# Altium integrated library Drone Flight Controller.IntLib: 33 symbols
Pins are listed as number, name and electrical type; pins without a type are passive.

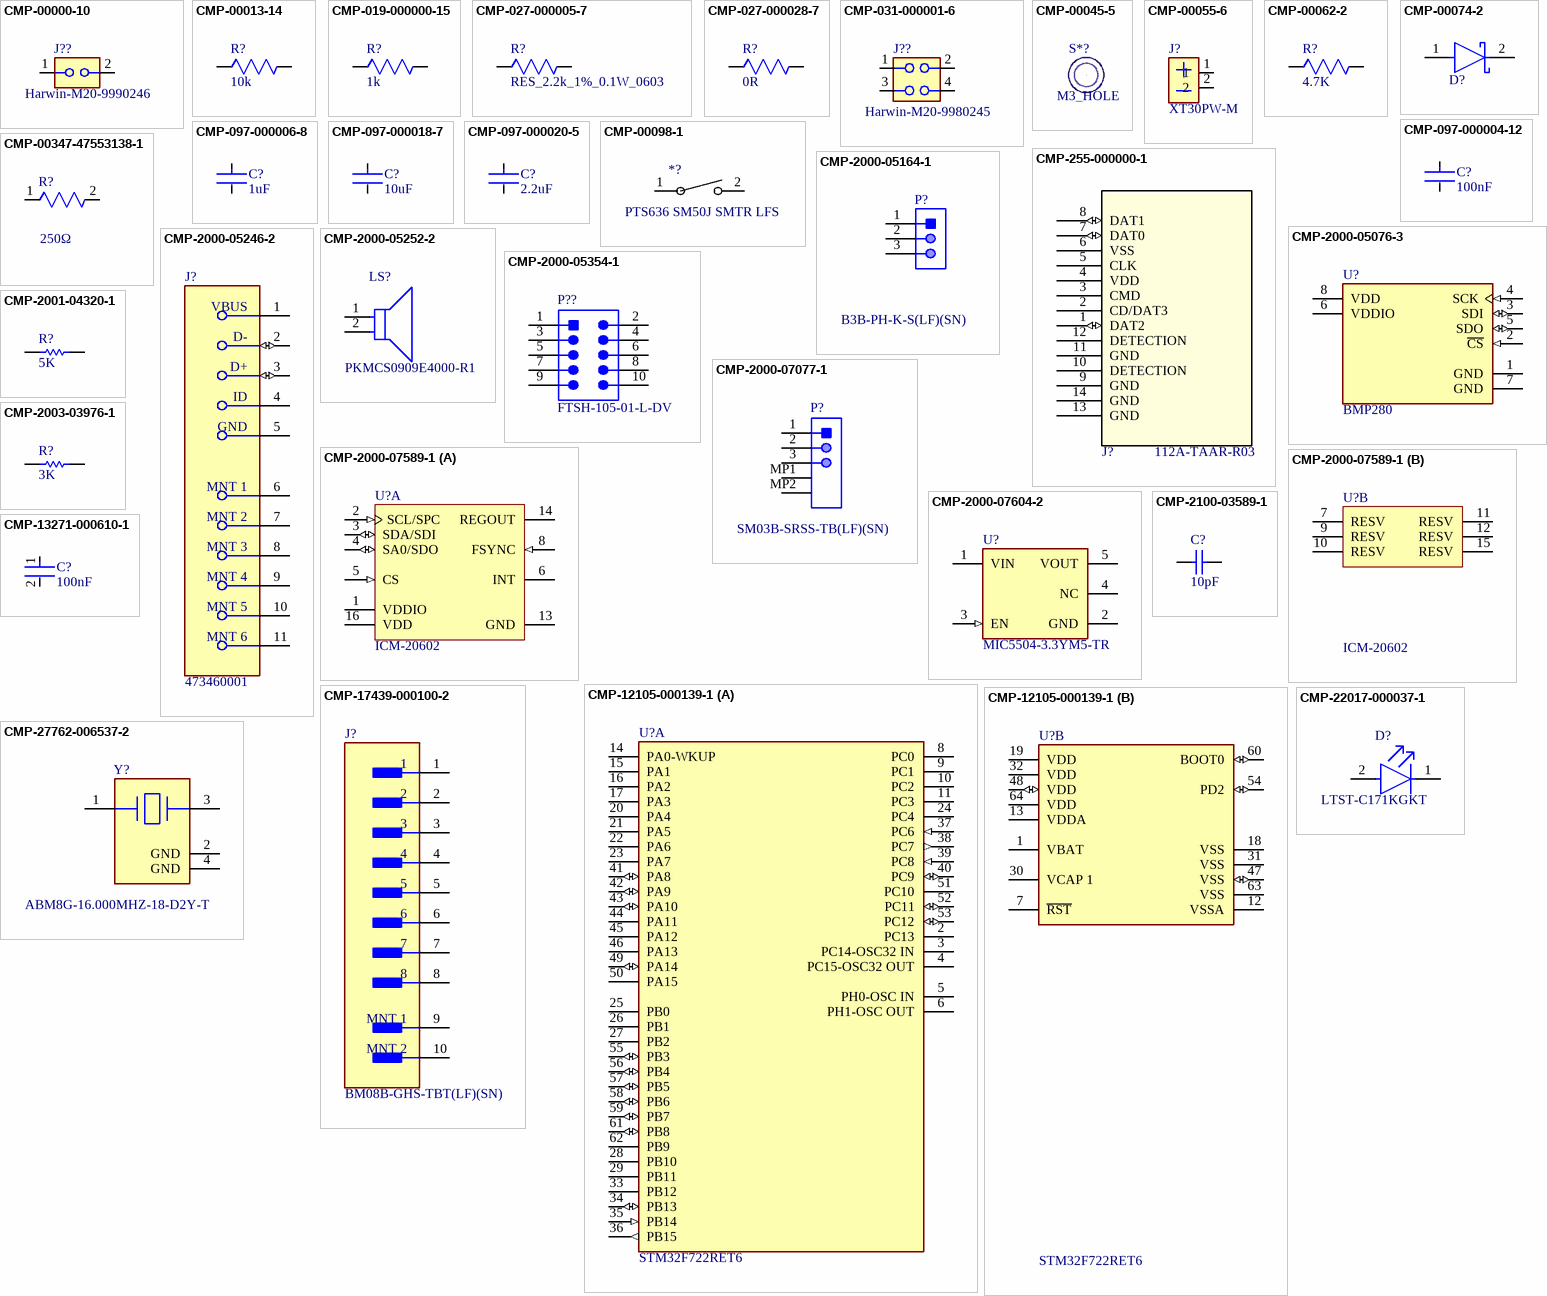
[diagram p0: symbols CMP-00000-10 to CMP-27762-006537-2]

## CMP-00000-10
designator J??, comment Harwin-M20-9990246
Connector Header Through Hole 2 position 0.100" (2.54mm); Manufacturer: Harwin; Number of Positions: 2; Contact Resistance: 30mR; Voltage Rating (AC): 750V; Max Current Rating: 3A; Insulation Resistance: 10GR; Gender: Male; Case/Package: SIL; Termination: Solder; Mount: Through Hole; Housing Material: Nylon; Max Operating Temperature: 105°C; JLCPCB Part No.: C3332353; Orientation: Straight; Contact Material: Bronze,Brass; Depth: 2.54mm; Current Rating: 3A; Radiation Hardening: No; Pitch: 2.54mm; Reach SVHC Compliant: No; Length: 5.08mm; Number of Rows: 1; Series: M20; Packaging: Bulk; Contact Plating: Tin; Contact Type: Male Pin; Color: Black; Contact Mating Length: 0.24inch; Package Quantity: 1000; Housing Color: Black; Min Operating Temperature: -40°C; Number of Contacts: 2; Manufacturer Part Number: M20-9990246; Component Type: Connectors
footprint HARWIN_M20-9990246
pins: 1, 2

## CMP-00013-14
designator R?, comment 10k
10 kOhms ±1% 0.1W, 1/10W Chip Resistor 0603 (1608 Metric) Moisture Resistant Thick Film; Manufacturer: Yageo Group; Manufacturer Part Number: RC0603FR-0710KL; Package Height: 0.45mm; Rated Temperature: 70°C; Temperature Coefficient: 100ppm/°C; Value: 10kR; Additional Feature: LASER TRIMMABLE; Power: 100mW; Working Voltage: 75V; Package Width: 0.8mm; Package Length: 1.6mm; Technology: METAL GLAZE/THICK FILM; Package Style: SMTMeter; Mounting Technology: Surface Mount; Reach SVHC Compliant: Yes; Package Shape: Rectangular; Min Operating Temperature: -55°C; Construction: Chip; JESD-609 Code: e3; Packaging: Tape and Reel; Tolerance: 1%; Max Operating Temperature: 155°C; Case/Package: 0603; Termination: Wraparound; Resistor Type: FIXED RESISTOR; Terminal Finish: Nickel; Pins: 2; JLCPCB Part No.: C98220; RoHS Compliant: Yes; Component Type: Resistors
footprint RES_0603 (Chip Resistor, 2-Leads, Body 1.60x0.80mm, IPC Medium Density)
pins: 1, 2

## CMP-019-000000-15
designator R?, comment 1k
1 kOhms ±1% 0.1W, 1/10W Chip Resistor 0603 (1608 Metric) Moisture Resistant Thick Film; Manufacturer: Yageo Group; Manufacturer Part Number: RC0603FR-071KL; Rated Temperature: 70°C; Working Voltage: 75V; Package Height: 0.45mm; MP: RC0805FR-071KL; Package Length: 1.6mm; Additional Feature: LASER TRIMMABLE; Temperature Coefficient: 100ppm/°C; Power: 100mW; MF: Yageo; Value: 1kR; Package Width: 0.8mm; Availability: In Stock; Package Style: SMTMeter; Termination: Wraparound; Min Operating Temperature: -55°C; SnapEDA_Link: https://www.snapeda.com/parts/RC0805FR-071KL/Yageo/view-part/?ref=snap; Mounting Technology: Surface Mount; Package: 2012 Rohm Semiconductor; JESD-609 Code: e3; Resistor Type: FIXED RESISTOR; Tolerance: 1%; RoHS Compliant: Yes; Case/Package: 0603; Package Shape: Rectangular; Component Type: Standard; Check_prices: https://www.snapeda.com/parts/RC0805FR-071KL/Yageo/view-part/?ref=eda; Pins: 2; Source: RC0805FR-071KL.SchLib; JLCPCB Part No.: C22548; Max Operating Temperature: 155°C; Pin Count: 2; Construction: Chip; Purchase-URL: https://pricing.snapeda.com/search/part/RC0805FR-071KL/?ref=eda; Terminal Finish: Nickel; Technology: METAL GLAZE/THICK FILM; Price: None; Reach SVHC Compliant: Yes; Design Item ID: RC0805FR-071KL; Packaging: Tape and Reel; Component Type: Resistors
footprint RES_0603 (Chip Resistor, 2-Leads, Body 1.60x0.80mm, IPC Medium Density)
pins: 1, 2

## CMP-027-000005-7
designator R?, comment RES_2.2k_1%_0.1W_0603
2.2 kOhms ±1% 0.1W, 1/10W Chip Resistor 0603 (1608 Metric) Moisture Resistant Thick Film; Manufacturer: Yageo Group; Manufacturer Part Number: RC0603FR-072K2L; Value: 2.2kR; JLCPCB Part No.: C114662; Component Type: Resistors
footprint RES_0603 (Chip Resistor, 2-Leads, Body 1.60x0.80mm, IPC Medium Density)
pins: 1, 2

## CMP-027-000028-7
designator R?, comment 0R
0 Ohms Jumper Chip Resistor 0603 (1608 Metric) Moisture Resistant Thick Film; Manufacturer: Yageo Group; Manufacturer Part Number: RC0603JR-070RL; Package Length: 1.6mm; Package Height: 0.45mm; Power: 100mW; Package Width: 0.8mm; Rated Temperature: 70°C; JLCPCB Part No.: C95177; RoHS Compliant: Yes; Packaging: Tape and Reel; Technology: METAL GLAZE/THICK FILM; Max Operating Temperature: 155°C; Pins: 2; Reach SVHC Compliant: Yes; Value: 0R; Package Shape: Rectangular; Min Operating Temperature: -55°C; Terminal Finish: Nickel; Termination: Wraparound; Resistor Type: FIXED RESISTOR; Mounting Technology: Surface Mount; Construction: Chip; Case/Package: 0603; JESD-609 Code: e3; Component Type: Resistors
footprint RES_0603 (Chip Resistor, 2-Leads, Body 1.60x0.80mm, IPC Medium Density)
pins: 1, 2

## CMP-031-000001-6
designator J??, comment Harwin-M20-9980245
Connector Header Through Hole 4 position 0.100" (2.54mm); Manufacturer: Harwin; MIL Conformance: No; Connector Type: BOARD CONNECTOR; Option: General Purpose; Number of Contacts: 4; Number of Rows Loaded: 1; Source: M20-9980245.SchLib; JLCPCB Part No.: C6585845; DIN Conformance: No; IEC Conformance: No; Mounting Technology: Board; JESD-609 Code: e4; Contact Finish - Termination: Gold (Au); Component Type: Standard; Pin Count: 4; Price: None; Mounting Style: STRAIGHT; Contact Material: Brass; Termination: Solder; Contact Finish - Mating: GOLD; Contact Gender: Male; Design Item ID: M20-9980245; Availability: Unavailable; Filter Feature: No; Terminal Pitch: 2.54mm; Value: *; Flammability Rating: UL94 V-0; MP: M20-9980245; Package: None; RoHS Compliant: Yes; Reach SVHC Compliant: Yes; Mixed Contacts: No; Manufacturer Part Number: M20-9980245; Component Type: Connectors
footprint HARWIN_M20-9980245
pins: 1, 2, 3, 4

## CMP-00045-5
designator S*?, comment M3_HOLE
Standard sized M3 screw mounting hole; Component Type: Miscellaneous
footprint M3 Screw Hole Footprint
pins: 0

## CMP-00055-6
designator J?, comment XT30PW-M
Power Connector; MF: amass; MP: XT30UPB-M; Source: XT30UPB-M.SchLib; Value: *; Design Item ID: XT30UPB-M; Pin Count: 2; JLCPCB Part No.: C428721; Availability: Not in stock; Check_prices: https://www.snapeda.com/parts/XT30UPB-M/AMASS/view-part/?ref=eda; SnapEDA_Link: https://www.snapeda.com/parts/XT30UPB-M/AMASS/view-part/?ref=snap; Package: None; Price: None; Component Type: Standard; Manufacturer: Amass; Manufacturer Part Number: XT30PW-M; Component Type: Connectors
footprint AMASS_XT30PW-M
pins: 1, 2

## CMP-00062-2
designator R?, comment 4.7K
Res Thick Film 1.6 x 0.8 mm 4.7K Ohm 1% 0.1W(1/10W) 100ppm/ C Molded SMD Paper T/R; Manufacturer: Yageo Group; Manufacturer Part Number: RC0603FR-074K7L; JLCPCB Part No.: C99782; Component Type: Resistors
footprint RES_0603 (Chip Resistor, 2-Leads, Body 1.60x0.80mm, IPC Medium Density)
pins: 1, 2

## CMP-00074-2
designator D?, comment SCHOTTKY_40Vrm_1A_500mV  (value not drawn)
SS14 Series 500 mV 1 A 40 V Max Reverse Voltage Schottky Rectifier - DO-214AC; Manufacturer: onsemi; JLCPCB Part No.: C2480; Manufacturer Part Number: SS14; Component Type: Diodes
footprint FP-403AE-MFG
pins: 1 A, 2 C

## CMP-097-000004-12
designator C?, comment 100nF
CAP CER 0.1UF 50V X7R 0603; Manufacturer: Yageo Group; Manufacturer Part Number: CC0603KRX7R9BB104; Tolerance (fill in as +-): 10%; Capacitor Type: Ceramic; Multilayer: Yes; Width: 0.8mm; Pins: 2; Case/Package: 0603; Max Operating Temperature: 125°C; Value: 100nF; Package Style: SMTMeter; Terminal Finish: Nickel; RoHS Compliant: Yes; Height: 0.8mm; Reach SVHC Compliant: Yes; JLCPCB Part No.: C14663; Tolerance  (fill in as +-): 10%; Temperature Characteristics Code: X7R; Rated DC Voltage (URdc): 50V; JESD-609 Code: e3; Termination: Wraparound; Dielectric Material: Ceramic; Length: 1.6mm; Package Shape: Rectangular; Min Operating Temperature: -55°C; Packaging: Tape and Reel; Mounting Technology: Surface Mount; Component Type: Capacitors
footprint CAP_0603 (Chip Capacitor, 2-Leads, Body 1.60x0.80mm, IPC Medium Density)
pins: 1, 2

## CMP-097-000006-8
designator C?, comment 1uF
CAP CER 1UF 50V X5R 0603; Manufacturer: Samsung Electro-Mechanics; Manufacturer Part Number: CL10A105KB8NNNC; Tolerance  (fill in as +-): 10%; Multilayer: Yes; Dielectric Material: Ceramic; Mounting Technology: Surface Mount; Max Operating Temperature: 85°C; Value: 1uF; Package Style: SMTMeter; Termination: Wraparound; JESD-609 Code: e3; Temperature Characteristics Code: X5R; Rated DC Voltage (URdc): 50V; Packaging: Tape and Reel; Tolerance (fill in as +-): 10%; Case/Package: 0603; JLCPCB Part No.: C15849; Height: 0.9mm; Package Shape: Rectangular; Terminal Finish: Nickel; Capacitor Type: Ceramic; Reach SVHC Compliant: Yes; Width: 0.8mm; Length: 1.6mm; Min Operating Temperature: -55°C; Pins: 2; RoHS Compliant: Yes; Component Type: Capacitors
footprint CAP_0603 (Chip Capacitor, 2-Leads, Body 1.60x0.80mm, IPC Medium Density)
pins: 1, 2

## CMP-097-000018-7
designator C?, comment 10uF
10 µF ±10% 100V Ceramic Capacitor X7S 1210 (3225 Metric); Manufacturer: Samsung; Manufacturer Part Number: CL32Y106KCVZ4NE; JLCPCB Part No.: C5596909; Component Type: Capacitors
footprint CAP_1210 (Chip Capacitor, 2-Leads, Body 3.25x2.50mm, IPC Medium Density)
pins: 1, 2

## CMP-097-000020-5
designator C?, comment 2.2uF
2.2 µF ±10% 100V Ceramic Capacitor X7R 1210 (3225 Metric); Manufacturer: Samsung Electro-Mechanics; Manufacturer Part Number: CL32B225KCJSNNE; JLCPCB Part No.: C55151; Value: 2.2uF; Component Type: Capacitors
footprint CAP_1210 (Chip Capacitor, 2-Leads, Body 3.25x2.50mm, IPC Medium Density)
pins: 1, 2

## CMP-00098-1
designator *?, comment PTS636 SM50J SMTR LFS
Switch Tactile N.O. SPST Rectangular Button J-Bend 0.05A 12VDC 1.77N SMD T/R; Manufacturer: C&K Components; Number of Positions: 1; Operating Force: 2.26N; Electrical Life: 50kcycles; Max Voltage Rating (DC): 12V; Max Current Rating: 50mA; Insulation Resistance: 100MΩ; Sealable: IP40; Length: 6mm; Lifecycle Status: Production; Throw Configuration: SPST; Min Operating Temperature: -40°C; Max Operating Temperature: 90°C; RoHS: Compliant; Height: 3.25mm; REACH SVHC: Yes; Contact Resistance: 100mΩ; Color: Black; Manufacturer Part Number: PTS636 SM50J SMTR LFS; Component Type: Switches
footprint PTS636 SM50J SMTR LFS-Footprint-1
pins: 1, 2

## CMP-255-000000-1
designator J?, comment 112A-TAAR-R03
Manufacturer_Name: Attend; Copyright: Copyright (C) 2025 Ultra Librarian. All rights reserved.; Type: Type; Design Item ID: 112A-TAAR-R03; Source: 112A-TAAR-R03.SchLib; Manufacturer_Part_Number: 112A-TAAR-R03; RefDes: RefDes
footprint CONN8_-TAAR-R03_ATT
pins: 1 DAT2 (io), 2 CD/DAT3, 3 CMD, 4 VDD (power), 5 CLK, 6 VSS (power), 7 DAT0 (io), 8 DAT1 (io), 9 GND (power), 10 DETECTION, 11 GND (power), 12 DETECTION, 13 GND (power), 14 GND (power)

## CMP-00347-47553138-1
designator R?
Res Thin Film 0603 250 Ohm 0.01% 0.1W(1/10W) ±5ppm/°C Pad SMD T/R Automotive AEC-Q200; Power Rating: 63mW; Max Power Dissipation: 100mW; Resistance: 250Ω; Schedule B: 8533210045, 8533210045; Features: Moisture Resistant; Case Code (Imperial): 0603; Width: 787.4µm; Case/Package: 0603; Composition: Thin Film; ComponentLink2Description: Datasheet URL; HelpURL: https://www.seielect.com/catalog/sei-rncf.pdf; Number of Terminations: 2; Length: 1.6002mm; ComponentLink1Description: Manufacturer's Website; Temperature Coefficient: 5ppm/°C; Mount: Surface Mount; Tolerance: 0.01%; Case Code (Metric): 1608; Max Operating Temperature: 155°C; RoHS: Compliant; Height: 558.8µm; ComponentLink2URL: https://www.seielect.com/catalog/sei-rncf.pdf; Min Operating Temperature: -55°C; ComponentLink1URL: http://www.seielect.com
footprint RNCF0603_MFG (Recommended Land Pattern)
footprint RESC15580X45_RNCF0603_L
footprint RESC15580X45_RNCF0603_M
footprint RESC15580X45_RNCF0603_N
pins: 1, 2

## CMP-2000-05076-3
designator U?, comment BMP280
SENSOR PRESSURE ABS; Operating Pressure: 15.95PSI; Pressure Type: Absolute; Output Type: SPI; Max Pressure: 290.08PSI; Port Style: No Port; Case/Package: SMD/SMT; Lead Free: Lead Free; Termination: SMD/SMT; Min Operating Temperature: -40°C; Number of Pins: 8; Max Operating Temperature: 85°C
footprint FP-BMP280-MFG
pins: 1 GND (power), 2 ~{CS} (in), 3 SDI (io), 4 SCK (in), 5 SDO (io), 6 VDDIO (power), 7 GND (power), 8 VDD (power)

## CMP-2000-05164-1
designator P?, comment B3B-PH-K-S(LF)(SN)
Male Header, Pitch 2 mm, 1 x 3 Position, Height 6 mm, Tail Length 3.4 mm, -25 to 85 degC, RoHS, Bulk; Manufacturer: JST; Style/Orientation: StraightHeader/Plug; Pitch: 2mm; No of Positions: 3; Termination: Crimp; Manufacturer URL: http://www.jst.com/home2.html; Datasheet Version: Oct-06; Type: ShroudedHeader; Datasheet URL: https://datasheet.ciiva.com/11746/0900766b80826550-11746939.pdf
footprint JST-B3B-PH-K-S-3_V (Connector, 3-Leads, Body 7.9x4.5mm, Pitch 2mm)
pins: 1, 2, 3

## CMP-2000-05246-2
designator J?, comment 473460001
CONN RCPT USB2.0 MICRO B SMD R/A; Manufacturer: Molex; Conn Orientation: Right Angle; Is Female: yes; Shielding: true; Pitch: 0.65mm; Number Of Contacts: 5; Voltage Rating: 30V; Current Rating: 1.8A; Device Class L2: USB Connectors; Digikey Description: CONN RCPT USB2.0 MICRO B SMD R/A; Height: 2.945mm; RoHS: TRUE; ComponentLink2Description: Datasheet; Octopart: https://octopart.com/47346-0001-molex-7164928; Automotive: No; Package: 0; Category: Conn; Device Class L1: Connectors; Usb Standard: USB 2.0; Temperature: -30°C to +85°C; Temperature Range Low: -30°C; Footprint Url: https://www.molex.com/pdm_docs/sd/473460001_sd.pdf; ComponentLink2URL: https://www.molex.com/webdocs/datasheets/pdf/en-us/0473460001_IO_CONNECTORS.pdf; Lead Free: Yes; Manufacturer Part Number: 473460001; Contact Material: Gold,Nickel; Temperature Range High: +85°C; Device Class L3: unset
footprint FP-473460001-MFG
pins: 1 VBUS (power), 2 D- (io), 3 D+ (io), 4 ID, 5 GND (power), 6 MNT 1, 7 MNT 2, 8 MNT 3, 9 MNT 4, 10 MNT 5, 11 MNT 6

## CMP-2000-05252-2
designator LS?, comment PKMCS0909E4000-R1
AUDIO PIEZO TRANSDUCER 12.5V SMD; Min Supply Voltage (DC): -12.5V; Self Resonant Frequency: 4kHz; Voltage Rating: 1.5V; Height: 1.9mm; Packaging: Tape and Reel; Min Operating Temperature: -40°C; Width: 9mm; Lead Free: Lead Free; Max Operating Temperature: 85°C; Max Supply Voltage (DC): 12.5V; Termination: Solder; Depth: 9mm; REACH SVHC: No SVHC; Frequency: 4kHz; Voltage Rating (DC): 12.5V; Radiation Hardening: No; Package Quantity: 2000; Length: 9mm; Mount: Surface Mount
footprint FP-PKMCS-MFG
pins: 1 C, 2 A

## CMP-2000-05354-1
designator P??, comment FTSH-105-01-L-DV
Male Header, Pitch 1.27 mm, 2 x 5 Position, Height 5.96 mm, -55 to 125 degC, RoHS, Bulk; Manufacturer: Samtec; Connector Type: Header,Unshrouded; Pitch: 0.050"(1.27mm); Mating Products: FLE-105-01-G-DV-TR-ND-CONNSKT1.27MM10POSDUALSMDCLP-105-02-G-D-P-TR-ND-CONNRCPT10POSDUAL.05"SMDSFMC-105-L2-S-D-TR-ND-CONN.05"SURFACE10POSSMTSFMH-105-02-L-D-TR-ND-CONNRECEPT10POS.50"SMTFLE-105-01-G-DV-A-ND-CONNSKT1.27MM10POSDUALSMDCLP-105-02-G-D-BE-ND-CONNRCPT10POSDUAL.05"SMDFLE-105-01-G-DV-A-P-ND-CONNSKT1.27MM10POSDUALSMDSAM1153-05-ND-CONNRCPT10POSDUAL.05"SMDSAM1155-05-ND-CONNRCPT10POSDUAL.05"SMDSAM1154-05-ND-CONNRCPT10POSDUAL.05"SMDSFMH-105-02-L-D-LC-ND-CONNRECEPT10POS.50"SMTSAM1226-05-ND-CONNRCPT.05"10POSDUALSMD; Catalog Drawings: FTSHSeriesFTSHSeriesSMTSide; Other Names: SAM1161-05; EDA / CAD Models: DownloadfromAcceleratedDesigns; Number of Positions Loaded: All; Number of Positions: 10; Featured Product: Board-To-BoardInterconnectSystems; Online Catalog: FTSHSeries; Product Training Modules: Board-to-BoardConnectors; Category: Connectors,Interconnects; Number of Rows: 2; Contact Finish: Gold; Termination: Solder; Mounting Type: SurfaceMount; Series: FTSH; Contact Mating Length: 0.120"(3.05mm); Row Spacing: 0.050"(1.27mm); Datasheet URL: https://datasheet.ciiva.com/30493/0900766b80adfe36-30493006.pdf; Contact Finish Thickness: 10µin(0.25µm); Features: -; Standard Package: 1; Packaging: Bulk; Datasheet Version: Feb-08; Manufacturer URL: http://www.samtec.com/; Fastening Type: -; Family: RectangularConnectors-Headers,MalePins; Contact Type: MalePin; Color: Black
footprint SMTC-FTSH-105-01-L-DV_V (CONN, 10-Leads, Body 6.35x3.43mm, Pitch 1.27mm)
pins: 1, 2, 3, 4, 5, 6, 7, 8, 9, 10

## CMP-2000-07077-1
designator P?, comment SM03B-SRSS-TB(LF)(SN)
Male Header, Pitch 1 mm, 1 x 3 Position, Height 2.9 mm, -25 to 85 degC, RoHS, Tape and Reel; Manufacturer: JST; Pitch: 1mm; Style/Orientation: RightAngleHeader/Plug; No of Positions: 3; Package Description: Male Header, Pitch 1 mm, 1 x 3 Position, Height 2.9 mm; Manufacturer URL: http://www.jst.com/home2.html; Package Reference: SM03B-SRSS-TB; Type: ShroudedHeader; Termination: Crimp; Mounting Technology: SurfaceMount; Datasheet Version: 11/2010; Datasheet URL: https://datasheet.ciiva.com/26894/getdatasheetpartid-708885-26894671.pdf
footprint JST-SM03B-SRSS-TB_V (SMD, 3-Leads, Body 5x4.25mm, Pitch 1mm)
pins: 1, 2, 3, MP1, MP2

## CMP-2000-07589-1
designator U?, comment ICM-20602
High Performance 6-Axis MEMS MotionTracking(TM) Device, 1.71 to 3.45 V, -40 to 85 degC, 16-Pin LGA, RoHS; Manufacturer: InvenSense; Sensor Type: Temperature; Output Type: I2C; RoHSCompliant: True; Datasheet Version: Rev. 1.0, 10/2016; Datasheet URL: http://www.invensense.com/wp-content/uploads/2016/10/DS-000176-ICM-20602-v1.0.pdf; Min Operating Temperature: -40degC; Mounting Technology: SurfaceMount; Max Operating Temperature: 85degC; Manufacturer URL: http://www.invensense.com/; Package Reference: I62-16; Package Description: 16-Pin Land Grid Array, Body 3 x 3 mm, Pitch 0.5 mm
footprint INSE-I62-16 (LGA, 16-Leads, Body 3x3mm, Pitch 0.5mm)
part A pins: 1 VDDIO (power) "Digital I/O supply voltage", 2 SCL/SPC (in) "I2C serial clock (SCL); SPI serial clock (SPC)", 3 SDA/SDI (io) "I2C serial data (SDA); SPI serial data input (SDI)", 4 SA0/SDO (io) "I2C slave address LSB (SA0); SPI serial data output (SDO)", 5 CS (in) "Chip select (0 = SPI mode; 1 = I2C mode)", 6 INT (oc) "Interrupt digital output (totem pole or open-drain)", 8 FSYNC (in) "Synchronization digital input (optional). Connect to GND if unused.", 13 GND (power) "Connect to GND", 14 REGOUT "Regulator filter capacitor connection", 16 VDD (power) "Power Supply"
part B pins: 7 RESV "Reserved. Do not connect.", 9 RESV "Reserved. Connect to GND.", 10 RESV "Reserved. Connect to GND.", 11 RESV "Reserved. Connect to GND.", 12 RESV "Reserved. Connect to GND.", 15 RESV "Reserved. Connect to GND."

## CMP-2000-07604-2
designator U?, comment MIC5504-3.3YM5-TR
IC REG LINEAR 3.3V 300MA SOT23-5; Quiescent Current: 38uA; Operating Supply Current: 42uA; Max Input Voltage: 5.5V; Min Input Voltage: 2.5V; Output Type: Fixed; Power Supply Rejection Ratio (PSRR): 60dB; Dropout Voltage: 380mV; Accuracy: 3%; Number of Outputs: 1; Nominal Output Voltage: 3.3V; Max Output Current: 300mA; Length: 2.9mm; Mount: Surface Mount; Width: 1.6mm; Packaging: Tape and Reel; Output Current: 300mA; Min Operating Temperature: -40°C; Max Operating Temperature: 125°C; Height: 1.1mm; Case/Package: SOT-23-5; REACH SVHC: No SVHC; Number of Pins: 5; Output Voltage: 3.3V
footprint FP-SOT23-5LD-PL-1-MFG
footprint FP-SOT23-5LD-PL-1-IPC_C
footprint FP-SOT23-5LD-PL-1-IPC_A
footprint FP-SOT23-5LD-PL-1-IPC_B
pins: 1 VIN (power), 2 GND (power), 3 EN (in), 4 NC, 5 VOUT (power)

## CMP-2001-04320-1
designator R?, comment 5K
Manufacturer: Vishay Dale; Part Number: PNM0805E5001BST5
footprint RESC2013X83X38NL15T13 (Chip Resistor, 2-Leads, Body 2.03x1.27mm, IPC Medium Density)
footprint RESC2013X83X38LL15T13 (Chip Resistor, 2-Leads, Body 2.03x1.27mm, IPC High Density)
footprint RESC2013X83X38ML15T13 (Chip Resistor, 2-Leads, Body 2.03x1.27mm, IPC Low Density)
pins: 1, 2
1 alternate drawing of the same symbol

## CMP-2003-03976-1
designator R?, comment 3K
Part Number: RC1206JR-073KL; Manufacturer: Yageo
footprint RESC3116X65X40ML10T20 (Chip Resistor, 2-Leads, Body 3.10x1.60mm, IPC Low Density)
footprint RESC3116X65X40NL10T20 (Chip Resistor, 2-Leads, Body 3.10x1.60mm, IPC Medium Density)
footprint RESC3116X65X40LL10T20 (Chip Resistor, 2-Leads, Body 3.10x1.60mm, IPC High Density)
pins: 1, 2
1 alternate drawing of the same symbol

## CMP-2100-03589-1
designator C?, comment 10pF
Chip Capacitor, 10 pF, +/- 5%, 50 V, -55 to 125 degC, 0402 (1005 Metric), RoHS, Tape and Reel; Manufacturer: Yageo; Insulation Resistance: 100GR; Voltage Rating (DC): 50V; Dielectric Material: Ceramic; Temperature Coefficient: 30ppm/degC; Dielectric: C0G; Termination: SMD/SMT; Package Reference: 0402; Lead Free: LeadFree; Composition: Ceramic; Tolerance: 5%; Case Code (Metric): 1005; Voltage Rating: 50V; Packaging: TapeandReel; Manufacturer URL: http://www.yageo.com/; REACH SVHC: NoSVHC; Max Operating Temperature: 125degC; Length: 1mm; Mount: SurfaceMount; Depth: 0.5mm; Min Operating Temperature: -55degC; Number of Pins: 2; Width: 0.02inch; Datasheet Version: Rev. 14, 07/2016; Package Quantity: 1; Datasheet URL: http://www.yageo.com/documents/recent/UPY-GP_NP0_16V-to-50V_14.pdf; Case Code (Imperial): 0402; RoHSCompliant: True; Radiation Hardening: No; Height: 0.5mm; Case/Package: 0402; Thickness: 0.022inch; Capacitance: 10pF; Package Description: 2-Pin Surface Mount Device, Body 1 x 0.5 mm; Voltage: 50V
footprint CAPC1005X55X25ML05T05 (Chip Capacitor, 2-Leads, Body 1.00x0.50mm, IPC Low Density)
footprint CAPC1005X55X25NL05T05 (Chip Capacitor, 2-Leads, Body 1.00x0.50mm, IPC Medium Density)
footprint CAPC1005X55X25LL05T05 (Chip Capacitor, 2-Leads, Body 1.00x0.50mm, IPC High Density)
pins: 1, 2

## CMP-12105-000139-1
designator U?, comment STM32F722RET6
IC MCU 32BIT 512KB FLASH 64LQFP; Interface: I2C; Number of I/Os: 50; Peripherals: Brown-out Detect/Reset; Core Architecture: ARM; Oscillator Type: Internal; Frequency: 216MHz; Memory Size: 512KB; Min Operating Temperature: -40°C; Max Operating Temperature: 85°C; Mount: Surface Mount; Case/Package: LQFP; Memory Type: FLASH; Packaging: Tray
footprint FP-LQFP64-5W-IPC_A
footprint FP-LQFP64-5W-MFG
footprint FP-LQFP64-5W-IPC_C
footprint FP-LQFP64-5W-IPC_B
part A pins: 2 PC13, 3 PC14-OSC32 IN, 4 PC15-OSC32 OUT, 5 PH0-OSC IN, 6 PH1-OSC OUT, 8 PC0, 9 PC1, 10 PC2, 11 PC3, 14 PA0-WKUP, 15 PA1, 16 PA2, 17 PA3, 20 PA4, 21 PA5, 22 PA6, 23 PA7, 24 PC4, 25 PB0, 26 PB1, 27 PB2, 28 PB10, 29 PB11, 33 PB12 (power), 34 PB13 (io), 35 PB14 (in), 36 PB15 (out), 37 PC6 (in), 38 PC7 (out), 39 PC8 (in), 40 PC9 (io), 41 PA8 (io), 42 PA9 (io), 43 PA10 (io), 44 PA11 (power), 45 PA12 (power), 46 PA13, 49 PA14 (io), 50 PA15 (power), 51 PC10 (power), 52 PC11 (io), 53 PC12 (io), 55 PB3 (io), 56 PB4 (io), 57 PB5 (io), 58 PB6 (io), 59 PB7 (io), 61 PB8 (io), 62 PB9 (power)
part B pins: 1 VBAT, 7 ~{RST}, 12 VSSA, 13 VDDA, 18 VSS, 19 VDD, 30 VCAP 1, 31 VSS, 32 VDD, 47 VSS (io), 48 VDD (io), 54 PD2 (io), 60 BOOT0 (io), 63 VSS (power), 64 VDD (power)

## CMP-13271-000610-1
designator C?, comment 100nF
Cap Ceramic 100nF 10V X7R ±10% SMD 0402 +125°C Paper T/R
footprint FP-CL93-IPC_C
footprint FP-CL93-IPC_B
footprint FP-CL93-IPC_A
pins: 1, 2

## CMP-17439-000100-2
designator J?, comment BM08B-GHS-TBT(LF)(SN)
CONN HEADER SMD 8POS 1.25MM; NexarPartId: 289283; Current Rating: 1A; Voltage Rating (AC): 50V; Number of Positions: 8; Wire/Cable Gauge: 26AWG; Contact Plating: Tin; Min Operating Temperature: -25°C; Contact Material: Copper, Tin; Packaging: Cut Tape; Max Operating Temperature: 85°C; Pitch: 1.25mm; Termination: SMD/SMT; REACH SVHC: No SVHC; Lead Free: Lead Free; Housing Material: Nylon; Height: 4.2mm; Case/Package: SMD/SMT; Lead Pitch: 1.25mm; Housing Color: Natural; Voltage Rating: 50V; RoHS: Compliant; Orientation: Straight; Number of Rows: 1; Number of Contacts: 8
footprint FP-BM08B-GHS-TBT_LF_SN-MFG
pins: 1, 2, 3, 4, 5, 6, 7, 8, 9 MNT 1, 10 MNT 2

## CMP-22017-000037-1
designator D?, comment LTST-C171KGKT
LED GREEN CLEAR SMD; Number of LEDs: 1; Viewing Angle: 130°; Lens Style: Rectangular; Dominant Wavelength: 571nm; Test Current: 20mA; Luminous Intensity: 35mcd; Power Rating: 75mW; Forward Voltage: 2.4V; Forward Current: 30mA; Reverse Voltage: 5V; Lens Color: Colorless; Wavelength: 574nm; Height: 0.8mm; Illumination Color: Green; Length: 2mm; Case/Package: 0805; Number of Pins: 2; Number of Elements: 1; Package Quantity: 1; Depth: 1.25mm; Lens Transparency: Clear; Width: 1.25mm; Color: Green; Radiation Hardening: No; Mount: Surface Mount; Packaging: Tape and Reel; Case Code (Metric): 2012; Lead Free: Lead Free; Max Operating Temperature: 85°C; Min Operating Temperature: -55°C; Case Code (Imperial): 0805; Power Dissipation: 75mW
footprint FP-LTST-C171KGKT-MFG
pins: 1 C, 2 A

## CMP-27762-006537-2
designator Y?, comment ABM8G-16.000MHZ-18-D2Y-T
Crystal 16MHz ±20ppm (Tol) ±30ppm (Stability) 18pF FUND 80Ω 4-Pin SMD T/R; Series Resistance: 80R; Radiation Hardening: No; Load Capacitance: 18pF; Package Quantity: 1000; Frequency Stability: 30ppm; ESR (Equivalent Series Resistance): 80R; Depth: 2.5mm; Height: 1mm; Number of Pins: 4; Frequency Tolerance: 20ppm; Frequency: 16MHz; Tolerance: 20ppm; Min Operating Temperature: -40°C; Length: 3.2mm; Termination: SMD/SMT; Max Operating Temperature: 85°C; Width: 2.5mm; Series: ABM8G; Mount: Surface Mount; Case/Package: CSMD; Lead Free: Lead Free; Operating Frequency: 16 MHz; Packaging: Tape and Reel
footprint FP-ABM8G-MFG
pins: 1, 2 GND (power), 3, 4 GND (power)